# EAGLE library part W25Q128 (library jason_eagle6)
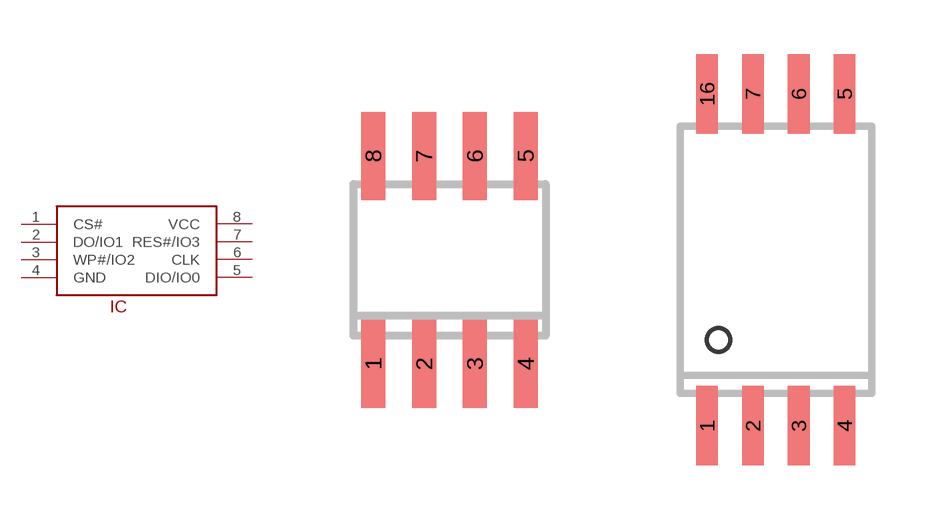
[diagram p57: symbol with the pads of SO08; footprints SO08, SO08W]

Designator prefix IC

## W25Q128  [SO08]
1  CS#
2  DO/IO1
3  WP#/IO2
4  GND  pwr
5  DIO/IO0
6  CLK
7  RES#/IO3
8  VCC  pwr

## W25Q128SO08W  [SO08W]
1  CS#
2  DO/IO1
3  WP#/IO2
4  GND  pwr
5  DIO/IO0
6  CLK
7  RES#/IO3
16  VCC  pwr

## Footprint SO08 (pad centres in mm)
Small Outline Package 8 NS Package M08A
smd 0.6 x 2.2: 1 -1.905,-2.6; 2 -0.635,-2.6; 3 0.635,-2.6; 4 1.905,-2.6; 5 1.905,2.6; 6 0.635,2.6; 7 -0.635,2.6; 8 -1.905,2.6

## Footprint SO08W (pad centres in mm)
smd 0.6 x 2.2: 1 -1.905,-4.6; 2 -0.635,-4.6; 3 0.635,-4.6; 4 1.905,-4.6; 5 1.905,4.6; 6 0.635,4.6; 7 -0.635,4.6; 16 -1.905,4.6